# Altium footprint library PCB - DIODES - SMAJ22CAR3.PcbLib: 1 footprints
Each footprint in its own frame and in the unit in brackets; x right, y up, seen from the top. Pads: shape width x height; smd on the part's side, far side on the other; paste and mask are expansions set on the pad; w line width, h text height; cw(c..) or ccw(c..) is an arc to the next point about the centre after c.
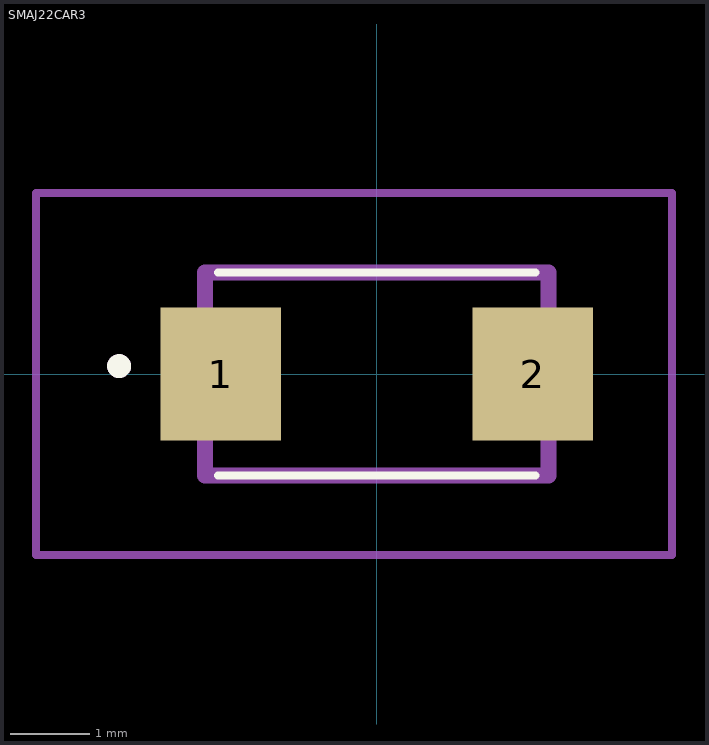
[diagram p0: the footprint, top view; thin cyan lines are the x and y axes]

## SMAJ22CAR3 [mm]
pads (2):
  rect 1.52x1.68 smd: 1(-1.965,0) 2(1.965,0)
Top Overlay:
  lines w0.1: -2,-1.28 2,-1.28 -2,-1.28 ; -2,1.28 2,1.28 -2,1.28
  lines w0.2: -3.3,0.1 ccw(c-3.25,0.1) -3.2,0.1 ; -3.3,0.1 cw(c-3.25,0.1) -3.2,0.1 ; -3.3,0.1 ccw(c-3.25,0.1) -3.2,0.1
Top Assembly:
  lines w0.2: -3.3,0.1 ccw(c-3.25,0.1) -3.2,0.1 ; -3.3,0.1 cw(c-3.25,0.1) -3.2,0.1 ; -3.3,0.1 ccw(c-3.25,0.1) -3.2,0.1 ; -2.165,-1.28 2.165,-1.28 2.165,1.28 -2.165,1.28 -2.165,-1.28
Top Courtyard:
  lines w0.1: -4.3,-2.28 3.725,-2.28 3.725,2.28 -4.3,2.28 -4.3,-2.28
Top Designator:
  text ".Designator" at -4.191,5.207 h1
Top Value (Mech13):
  text ".Comment" at -4.191,4.064 h1
3D body "SMAJ22CA_R3.stp": height 2.6, standoff 0, extent -2.573,-1.28 2.573,1.28